# Altium integrated library Transistors.IntLib: 8 symbols
Pins are listed as number, name and electrical type; pins without a type are passive.

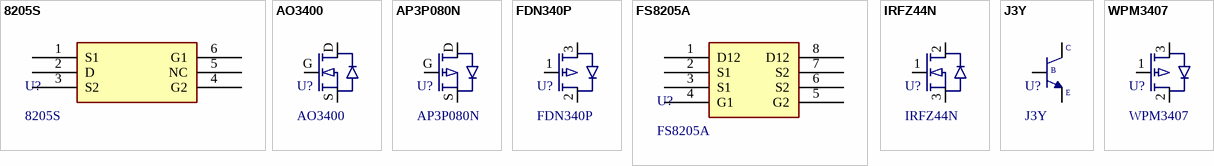
[diagram p0: symbols 8205S to WPM3407]

## 8205S
designator U?
20V DUAL N-CHANNEL MOSFET SOT-23-6; ComponentLink1Description: Datasheet; ComponentLink1URL: https://datasheet.lcsc.com/szlcsc/1911041205_TuoFeng-8205S_C436914.pdf; JLCPCB PN: C2762930
footprint 8205S (20V N-CHANNEL ENCHANCEMENT-MODE MOSFET)
pins: 1 S1, 2 D, 3 S2, 4 G2, 5 NC, 6 G1

## AO3400
designator U?
Mosfet NPN
footprint SOT23-3
pins: D, G, S

## AP3P080N
designator U?
Mosfet PNP
footprint SOT23-3
pins: D, G, S

## FDN340P
designator U?
MOSFET SOT-23-3; JLCPCB PN: C2890122; ComponentLink1Description: Datasheet; ComponentLink1URL: https://www.onsemi.com/pdf/datasheet/fdn340p-d.pdf
footprint FDN340P
pins: 1, 2, 3

## FS8205A
designator U?
20V DUAL N-CHANNEL MOSFET TSSOP-8; ComponentLink1Description: Datasheet; ComponentLink1URL: https://www.ic-fortune.com/upload/Download/FS8205A-DS-12_EN.pdf; JLCPCB PN: C16052
footprint FS8205A (DUAL N-CHANNEL ENHACEMENT MODE POWER MOSFET)
pins: 1 D12, 2 S1, 3 S1, 4 G1, 5 G2, 6 S2, 7 S2, 8 D12

## IRFZ44N
designator U?
55V N-CHANNEL MOSFET TO-220-3; JLCPCB PN: C2586; ComponentLink1Description: Datasheet; ComponentLink1URL: https://www.infineon.com/dgdl/Infineon-IRFZ44N-DataSheet-v01_01-EN.pdf?fileId=5546d462533600a40153563b3a9f220d
footprint IRFZ44N (TO-220)
pins: 1, 2, 3

## J3Y
designator U?
TRANSISTOR BIPOLAR (BJT) NPN 25V 500mA SOT-23-3; Digikey PN: 4518-S8050CT-ND; ComponentLink1Description: Datasheet; ComponentLink1URL: https://media.digikey.com/pdf/Data%20Sheets/UTD%20Semi%20PDFs/S8050.pdf; JLCPCB PN: C2828466
footprint J3Y
pins: 1 B, 2 E, 3 C

## WPM3407
designator U?
MOSFET 30V 4.4A SOT-23; JLCPCB PN: C2987047; ComponentLink1Description: Datasheet; ComponentLink1URL: https://datasheet.lcsc.com/lcsc/1810202308_WILLSEMI-Will-Semicon-WPM3407-3-TR_C167139.pdf
footprint WPM3407
pins: 1, 2, 3